# Altium footprint library TO254P470X1016X2019-3P.PcbLib: 1 footprints
Each footprint in its own frame and in the unit in brackets; x right, y up, seen from the top. Pads: shape width x height; smd on the part's side, far side on the other; paste and mask are expansions set on the pad; w line width, h text height; cw(c..) or ccw(c..) is an arc to the next point about the centre after c.
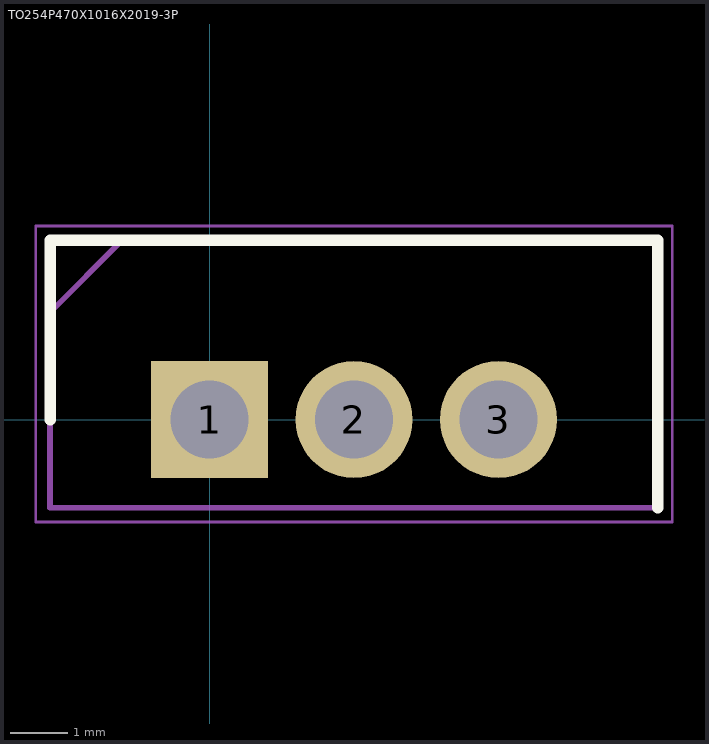
[diagram p0: the footprint, top view; thin cyan lines are the x and y axes]

## TO254P470X1016X2019-3P [mm]
pads (3):
  rect 2.055x2.055 / inner round 2.055 / far side rect 2.055x2.055 hole 1.37: 1(0,0)
  round 2.055 hole 1.37: 2(2.535,0) 3(5.07,0)
Top Overlay:
  lines w0.2: -2.8,0 -2.8,3.15 7.87,3.15 7.87,-1.55
Mechanical 15:
  lines w0.1: -2.8,1.882 -1.532,3.15 ; -2.8,-1.55 7.87,-1.55 7.87,3.15 -2.8,3.15 -2.8,-1.55
Mechanical 20:
  lines w0.05: -3.05,-1.8 8.12,-1.8 8.12,3.4 -3.05,3.4 -3.05,-1.8